# Altium schematic symbol library AT86RF212-ZU.Schlib: 1 symbol
Pins are listed as number, name and electrical type; pins without a type are passive.

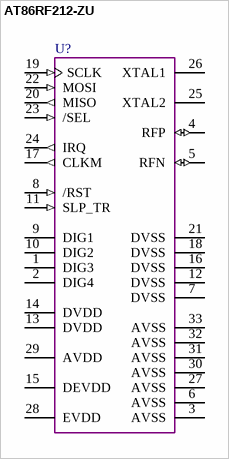
[diagram p0: symbol AT86RF212-ZU]

## AT86RF212-ZU
designator U?  (value not drawn)
pins: 1 DIG3 "RX/TX Indication , see section9.4; if disabled, internally pulled to AVSS", 2 DIG4 "RX/TX Indication (inverted DIG3) , see section9.4; if disabled, internally pulled to AVSS", 3 AVSS (power) "Ground for RF signals", 4 RFP (io) "Differential RF signal", 5 RFN (io) "Differential RF signal", 6 AVSS (power) "Ground for RF signals", 7 DVSS (power) "Digital ground", 8 /RST (in) "Chip reset; active low", 9 DIG1 "General purpose signal, see section 9.3; if disabled, internally pulled to DVSS", 10 DIG2 "1.General purpose signal (inverted DIG1), see section 9.3; 2.Signal IRQ_2 (RX_START) for RX Frame Time Stamping, see 9.5. If disabled, internally pulled to DVSS", 11 SLP_TR (in) "Controls sleep, transmit start, receive states; active high, see Section 6.5", 12 DVSS (power) "Digital ground", 13 DVDD (power) "Regulated 1.8V supply voltage; digital domain;see section 7.5", 14 DVDD (power) "Regulated 1.8V supply voltage; digital domain;see section 7.5", 15 DEVDD (power) "External supply voltage; digital domain", 16 DVSS (power) "Digital ground", 17 CLKM (out) "Master clock signal output,low if disabled;see section 7.7", 18 DVSS (power) "Digital ground", 19 SCLK (in) "SPI clock", 20 MISO (out) "SPI data output (master input slave output)", 21 DVSS (power) "Digital ground", 22 MOSI (in) "SPI data input (master output slave input)", 23 /SEL (in) "SPI select; active low", 24 IRQ (out) "1.Interrupt request signal; active high or active low;see sectiong 4.7   2.Buffer-level mode indicator;active high", 25 XTAL2 "Crystal pin,see sections 2.2.1.3 and 7.7", 26 XTAL1 "Crystal pin or external clock supply, see  section 2.2.1.3 and 7.7", 27 AVSS (power) "Analog ground", 28 EVDD (power) "External supply voltage; analog domain", 29 AVDD (power) "Regulated 1.8V supply voltage; analog domain;see section 7.5", 30 AVSS (power) "Analog ground", 31 AVSS (power) "Analog ground", 32 AVSS (power) "Analog ground", 33 AVSS (power) "Analog ground;exposed paddle of QFN package"